# Altium schematic symbol library LOGOs.SchLib: 5 symbols
Pins are listed as number, name and electrical type; pins without a type are passive.

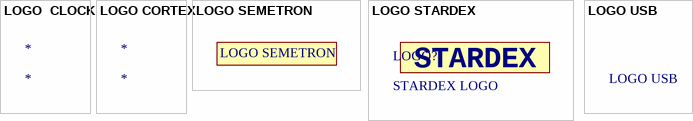
[diagram p0: symbols LOGO  CLOCK to LOGO USB]

## LOGO  CLOCK
designator *  (graphical)
LOGO
footprint LOGO CLOCK

## LOGO CORTEX
designator *  (graphical)
footprint LOGO CORTEX

## LOGO SEMETRON
designator ?  (value not drawn)  (graphical)
footprint LOGO SEMETRON LARGE

## LOGO STARDEX
designator LOGO?, comment STARDEX LOGO
footprint LOGO STARDEX 1
footprint LOGO STARDEX 2
text: STARDEX

## LOGO USB
designator ?  (graphical)
LOGO
footprint LOGO USB